# EAGLE library part IC_W25Q (library Deegou_IC)
http://www.winbond.com.tw/NR/rdonlyres/EE30B34B-8D95-4519-84F4-428F2515F06D/0/SerialFlashSelectionGuide1112911.pdf
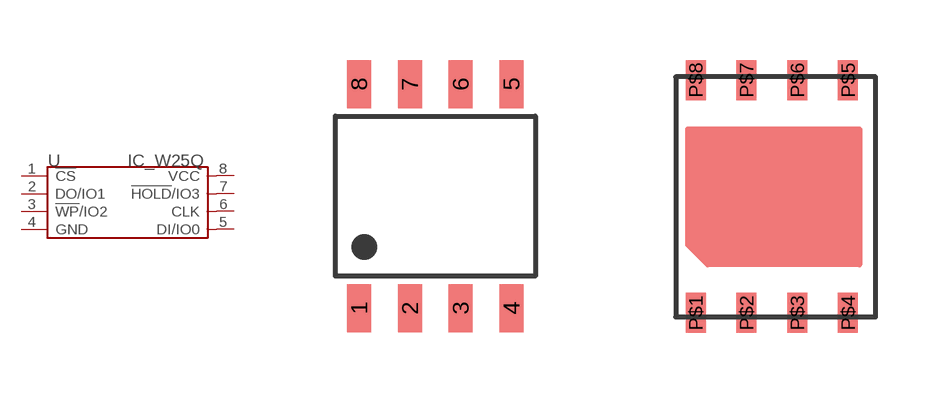
[diagram p94: symbol with the pads of IC_SOIC8-6.0; footprints IC_SOIC8-6.0, IC_WSON8]

Designator prefix U

## IC_W25Q  [IC_SOIC8-6.0]
1  !CS
2  DO/IO1
3  !WP!/IO2
4  GND
5  DI/IO0
6  CLK
7  !HOLD!/IO3
8  VCC

## IC_W25Q6X5  [IC_WSON8]
P$1  !CS
P$2  DO/IO1
P$3  !WP!/IO2
P$4  GND
P$5  DI/IO0
P$6  CLK
P$7  VCC
P$8  !HOLD!/IO3

## IC_W25QWSON8-8X6  [IC_WSON8-8X6]
1  !CS
2  DO/IO1
3  !WP!/IO2
4  GND
5  DI/IO0
6  CLK
7  !HOLD!/IO3
8  VCC
9  GND

## IC_W25Q_SOIC8  [IC_SOIC8-9.1]
Pads as for IC_SOIC8-6.0

## Footprint IC_SOIC8-6.0 (pad centres in mm)
smd 0.6 x 1.2: 1 -1.905,-2.8; 2 -0.635,-2.8; 3 0.635,-2.8; 4 1.905,-2.8; 5 1.905,2.8; 6 0.635,2.8; 7 -0.635,2.8; 8 -1.905,2.8

## Footprint IC_WSON8 (pad centres in mm)
smd 0.5 x 1: P$1 0.5,0.1; P$2 1.77,0.1; P$3 3.04,0.1; P$4 4.31,0.1; P$5 4.31,5.92; P$6 3.04,5.92; P$7 1.77,5.92; P$8 0.5,5.92

## Footprint IC_WSON8-8X6 (pad centres in mm)
smd 0.5 x 1: 1 -1.905,-3.9; 2 -0.635,-3.9; 3 0.635,-3.9; 4 1.905,-3.9; 5 1.905,3.92; 6 0.635,3.92; 7 -0.635,3.92; 8 -1.905,3.92
smd 4.3 x 3.4: 9 0,0

## Footprint IC_SOIC8-9.1 (pad centres in mm)
smd 0.635 x 1.524: 1 -1.905,-3.81; 2 -0.635,-3.81; 3 0.635,-3.81; 4 1.905,-3.81; 5 1.905,3.81; 6 0.635,3.81; 7 -0.635,3.81; 8 -1.905,3.81